# Altium footprint library PMP12082_TID.PcbLib: 28 footprints (part 1 of 2)
Each footprint in its own frame and in the unit in brackets; x right, y up, seen from the top. Pads: shape width x height; smd on the part's side, far side on the other; paste and mask are expansions set on the pad; w line width, h text height; cw(c..) or ccw(c..) is an arc to the next point about the centre after c.
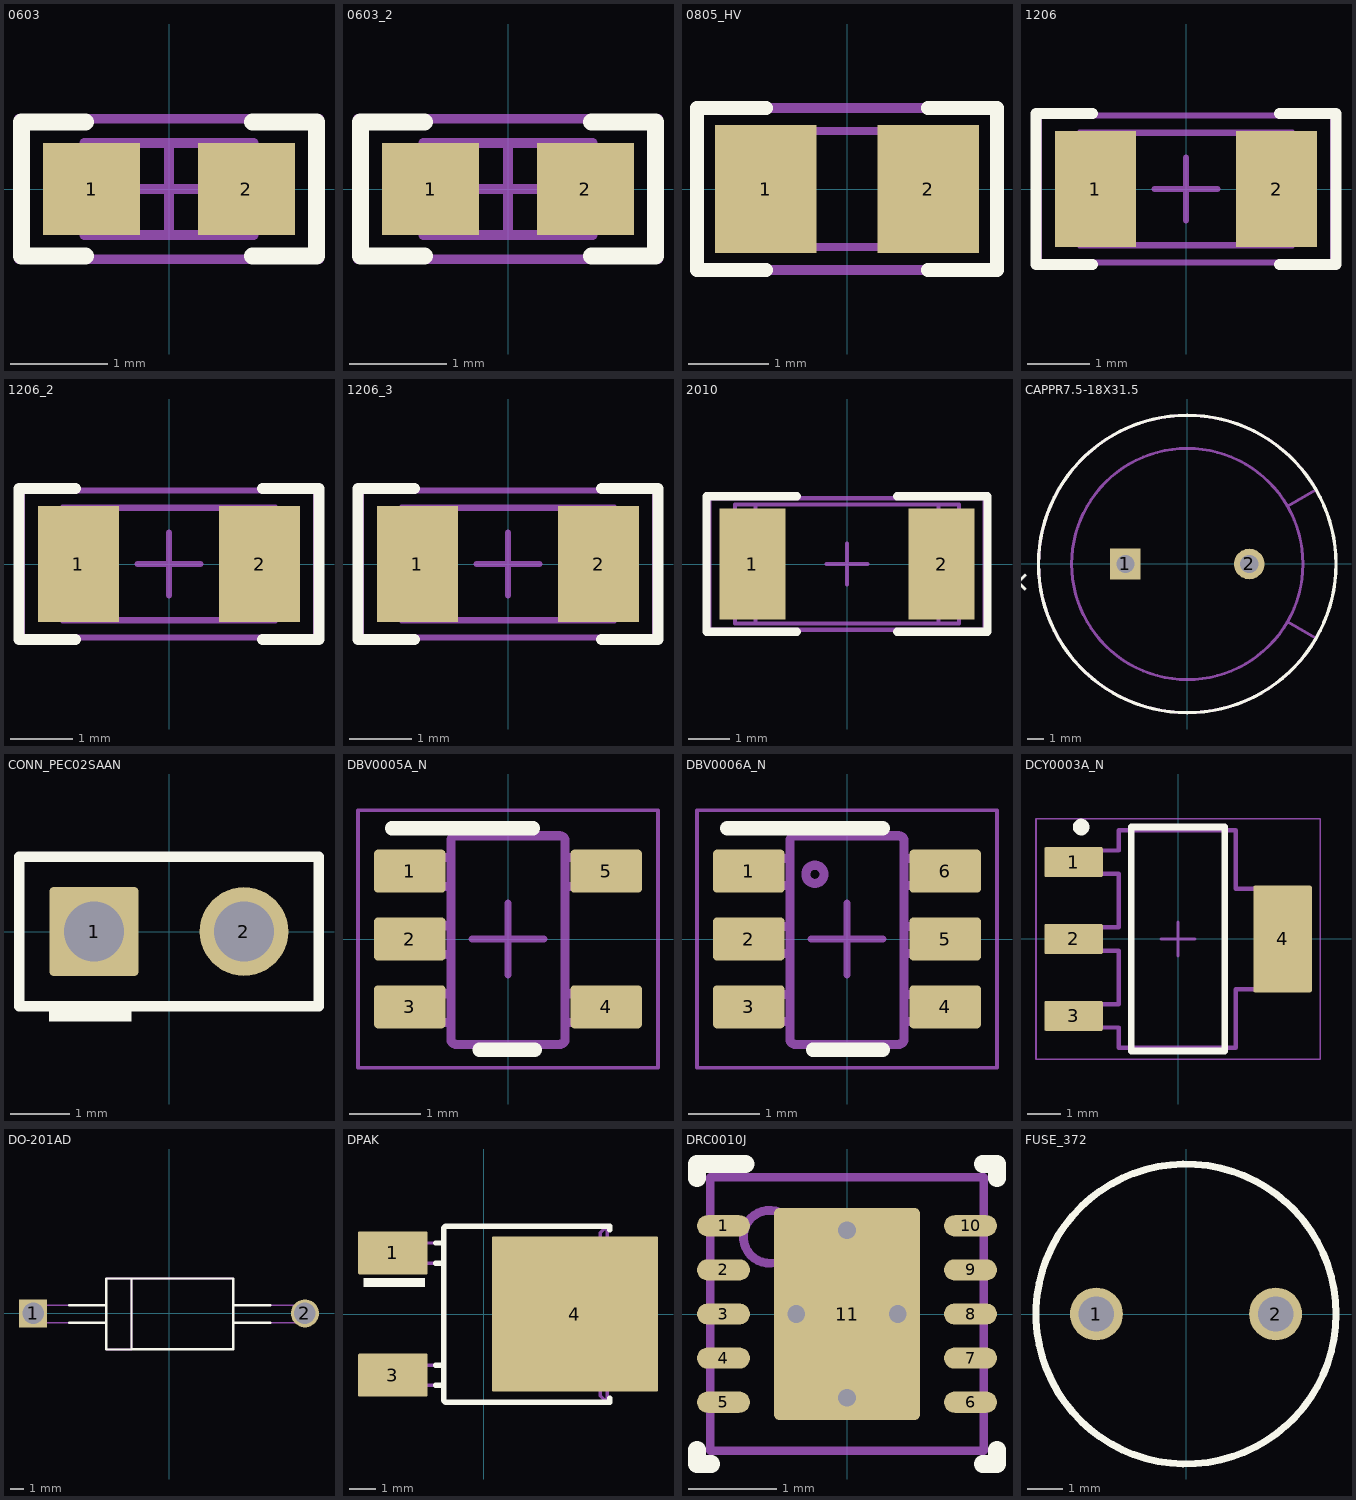
[diagram p0: the footprints below, top view; thin cyan lines are the x and y axes]

## 0603 [mm]
pads (2):
  rect 1x0.95 smd: 1(-0.8,0) 2(0.8,0)
Top Overlay:
  lines w0.178: -0.864,-0.691 -1.524,-0.691 -1.524,0.693 -0.864,0.693 ; 0.864,-0.691 1.524,-0.691 1.524,0.693 0.864,0.693
Mechanical 5:
  lines w0.1: -1.55,-0.725 1.55,-0.725 1.55,0.725 -1.55,0.725 -1.55,-0.725
  text ".Designator" at -1.397,-0.381 h0.76
Mechanical 13:
  lines w0.1: -0.55,-0.475 -0.55,0.475 ; 0.55,-0.475 0.55,0.475 ; -0.875,-0.475 -0.875,0.475 0.875,0.475 0.875,-0.475 -0.875,-0.475
Mechanical 15:
  lines w0.1: -0.475,0 0.475,0 ; 0,-0.475 0,0.475 ; -1.55,-0.725 -1.55,0.725 1.55,0.725 1.55,-0.725 -1.55,-0.725
3D body: height 1, standoff 0, extent 0.551,-0.474 0.874,0.474
3D body: height 1, standoff 0, extent -0.549,-0.474 0.549,0.474
3D body: height 1, standoff 0, extent -0.874,-0.474 -0.551,0.474

## 0603_2 [mm]
pads (2):
  rect 1x0.95 smd: 1(-0.8,0) 2(0.8,0)
Top Overlay:
  lines w0.178: -0.864,-0.691 -1.524,-0.691 -1.524,0.693 -0.864,0.693 ; 0.864,-0.691 1.524,-0.691 1.524,0.693 0.864,0.693
Mechanical 5:
  lines w0.1: -1.55,-0.725 -1.55,0.725 1.55,0.725 1.55,-0.725 -1.55,-0.725
  text ".Designator" at -1.397,-0.381 h0.76
Mechanical 13:
  lines w0.1: -0.55,-0.475 -0.55,0.475 ; 0.55,-0.475 0.55,0.475 ; -0.875,-0.475 0.875,-0.475 0.875,0.475 -0.875,0.475 -0.875,-0.475
Mechanical 15:
  lines w0.1: -0.475,0 0.475,0 ; 0,-0.475 0,0.475 ; -1.55,-0.725 1.55,-0.725 1.55,0.725 -1.55,0.725 -1.55,-0.725
3D body: height 1, standoff 0, extent -0.874,-0.474 -0.551,0.474
3D body: height 1, standoff 0, extent -0.549,-0.474 0.549,0.474
3D body: height 1, standoff 0, extent 0.551,-0.474 0.874,0.474

## 0805_HV [mil]
pads (2):
  rect 50x63 smd: 1(-40,0) 2(40,0)
Top Overlay:
  lines w7: -40,-40 -74,-40 -74,0 -74,40 -40,40 ; 40,-40 74,-40 74,0 74,40 40,40
Mechanical 5:
  lines w5: -74,-40 -74,40 74,40 74,-40 -74,-40
  text ".Designator" at -64,-17 h35
Mechanical 13:
  lines w3.94: -25.59,-28.54 -25.59,28.54 ; 25.59,-28.54 25.59,28.54 ; -43.31,-28.54 -43.31,28.54 43.31,28.54 43.31,-28.54 -43.31,-28.54
3D body: height 57.09, standoff 0, extent 25.61,-28.52 43.29,28.52
3D body: height 57.09, standoff 0, extent -25.57,-28.52 25.57,28.52
3D body: height 57.09, standoff 0, extent -43.29,-28.52 -25.61,28.52

## 1206 [mm]
pads (2):
  rect 1.3x1.85 smd: 1(-1.45,0) 2(1.45,0)
Top Overlay:
  lines w0.178: -1.5,-1.21 -2.4,-1.21 -2.4,1.21 -1.5,1.21 ; 1.5,-1.21 2.4,-1.21 2.4,1.21 1.5,1.21
Mechanical 5:
  lines w0.1: -1.7,-0.9 -1.7,0.9 1.7,0.9 1.7,-0.9 -1.7,-0.9
  text ".Designator" at -1.475,-0.4 h0.81
Mechanical 13:
  lines w0.1: -1.2,-0.9 -1.2,0.9 ; 1.2,-0.9 1.2,0.9 ; -1.7,-0.9 -1.7,0.9 1.7,0.9 1.7,-0.9 -1.7,-0.9
Mechanical 15:
  lines w0.1: -0.5,0 0.5,0 ; 0,-0.5 0,0.5 ; -2.35,-1.175 -2.35,1.175 2.35,1.175 2.35,-1.175 -2.35,-1.175
3D body: height 1.35, standoff 0, extent 1.201,-0.899 1.699,0.899
3D body: height 1.35, standoff 0, extent -1.199,-0.899 1.199,0.899
3D body: height 1.35, standoff 0, extent -1.699,-0.899 -1.201,0.899

## 1206_2 [mm]
pads (2):
  rect 1.3x1.85 smd: 1(-1.45,0) 2(1.45,0)
Top Overlay:
  lines w0.178: -1.5,-1.21 -2.4,-1.21 -2.4,1.21 -1.5,1.21 ; 1.5,-1.21 2.4,-1.21 2.4,1.21 1.5,1.21
Mechanical 5:
  lines w0.1: -1.7,-0.9 1.7,-0.9 1.7,0.9 -1.7,0.9 -1.7,-0.9
  text ".Designator" at -1.475,-0.4 h0.81
Mechanical 13:
  lines w0.1: -1.2,-0.9 -1.2,0.9 ; 1.2,-0.9 1.2,0.9 ; -1.7,-0.9 1.7,-0.9 1.7,0.9 -1.7,0.9 -1.7,-0.9
Mechanical 15:
  lines w0.1: -0.5,0 0.5,0 ; 0,-0.5 0,0.5 ; -2.35,-1.175 2.35,-1.175 2.35,1.175 -2.35,1.175 -2.35,-1.175
3D body: height 1.35, standoff 0, extent -1.699,-0.899 -1.201,0.899
3D body: height 1.35, standoff 0, extent -1.199,-0.899 1.199,0.899
3D body: height 1.35, standoff 0, extent 1.201,-0.899 1.699,0.899

## 1206_3 [mm]
pads (2):
  rect 1.3x1.85 smd: 1(-1.45,0) 2(1.45,0)
Top Overlay:
  lines w0.178: -1.5,-1.21 -2.4,-1.21 -2.4,1.21 -1.5,1.21 ; 1.5,-1.21 2.4,-1.21 2.4,1.21 1.5,1.21
Mechanical 5:
  lines w0.1: -1.7,-0.9 -1.7,0.9 1.7,0.9 1.7,-0.9 -1.7,-0.9
  text ".Designator" at -1.475,-0.4 h0.81
Mechanical 13:
  lines w0.1: -1.2,-0.9 -1.2,0.9 ; 1.2,-0.9 1.2,0.9 ; -1.7,-0.9 -1.7,0.9 1.7,0.9 1.7,-0.9 -1.7,-0.9
Mechanical 15:
  lines w0.1: -0.5,0 0.5,0 ; 0,-0.5 0,0.5 ; -2.35,-1.175 -2.35,1.175 2.35,1.175 2.35,-1.175 -2.35,-1.175
3D body: height 1.35, standoff 0, extent 1.201,-0.899 1.699,0.899
3D body: height 1.35, standoff 0, extent -1.199,-0.899 1.199,0.899
3D body: height 1.35, standoff 0, extent -1.699,-0.899 -1.201,0.899

## 2010 [mm]
pads (2):
  rect 1.6x2.7 smd: 1(-2.3,0) 2(2.3,0)
Top Overlay:
  lines w0.2: -1.219,-1.65 -3.419,-1.65 -3.419,1.65 -1.219,1.65 ; 1.219,-1.65 3.419,-1.65 3.419,1.65 1.219,1.65
Mechanical 5:
  lines w0.1: -2.73,-1.45 -2.73,1.45 2.73,1.45 2.73,-1.45 -2.73,-1.45
  text ".Designator" at -1.875,-0.5 h1.02
Mechanical 13:
  lines w0.1: -2.23,-1.45 -2.23,1.45 ; 2.23,-1.45 2.23,1.45 ; -2.73,-1.45 2.73,-1.45 2.73,1.45 -2.73,1.45 -2.73,-1.45
Mechanical 15:
  lines w0.1: -0.5,0 0.5,0 ; 0,-0.5 0,0.5 ; -3.35,-1.6 3.35,-1.6 3.35,1.6 -3.35,1.6 -3.35,-1.6
3D body: height 1.66, standoff 0, extent -2.729,-1.449 -2.231,1.449
3D body: height 1.66, standoff 0, extent -2.229,-1.449 2.229,1.449
3D body: height 1.66, standoff 0, extent 2.231,-1.449 2.729,1.449

## CAPPR7.5-18X31.5 [mm]
pads (2):
  rect 1.85x1.85 hole 1.1: 1(-3.75,0)
  round 1.85 hole 1.1: 2(3.75,0)
Top Overlay:
  circle w0.2: c-0.004,-0.001 r9
  text "+" at -9.16,-1.257 h1.5
Mechanical 5:
  circle w0.127: c-0.004,-0.001 r9
  text ".Designator" at -1.524,-0.508 h1.02
  text "+" at -10.475,-0.75 h1.5
Mechanical 13:
  circle w0.178: c0,0 r7
  circle w0.178: c3.75,0 r0.4
  circle w0.178: c-3.75,0 r0.4
  lines w0.178: 6.062,-3.5 cw(c0,0) 6.062,3.5 7.794,4.5 ccw(c0,0) 7.794,-4.5 6.062,-3.5
3D body: height 33.5, standoff 0, extent 6.061,-4.501 9.001,4.501
3D body: height 33.5, standoff 0, extent -8.999,-9.01 7.794,9.01
3D body: height 33.5, standoff 0, extent -6.999,-7.007 6.999,7.007
3D body: height 1, standoff -2.54, extent -4.149,-0.399 -3.351,0.399
3D body: height 1, standoff -2.54, extent 3.351,-0.399 4.149,0.399

## CONN_PEC02SAAN [mm]
pads (2):
  rrect7% 1.5x1.5 hole 1.016: 1(-1.27,0)
  round 1.5 hole 1.016: 2(1.27,0)
Top Overlay:
  rectangle: -2.032,-1.524 -0.635,-1.27
  lines w0.178: -2.54,-1.27 2.54,-1.27 2.54,1.27 -2.54,1.27 -2.54,-1.27
Mechanical 5:
  lines w0.127: -2.54,-1.27 -2.54,1.27 2.54,1.27 2.54,-1.27 -2.54,-1.27
  text ".Designator" at -1.778,-0.381 h0.76
3D body: height 8.38, standoff -3.05, extent 0.966,-0.304 1.574,0.304
3D body: height 8.38, standoff -3.05, extent -1.574,-0.304 -0.966,0.304
3D body: height 2.54, standoff 0, extent -2.539,-1.269 2.539,1.269

## DBV0005A_N [mm]
pads (5):
  rrect17% 1x0.6 smd: 1(-1.375,0.95) 2(-1.375,0) 3(-1.375,-0.95) 4(1.375,-0.95) 5(1.375,0.95)
Top Overlay:
  lines w0.2: -1.625,1.55 0.35,1.55 ; -0.4,-1.55 0.375,-1.55
Mechanical 5:
  lines w0.127: -0.801,1.371 cw(c-0.725,1.37) -0.725,1.446 ; -0.801,1.37 -0.801,1.371 ; -0.801,1.37 -0.801,-1.399 -0.801,-1.4 ccw(c-0.725,-1.399) -0.725,-1.475 ; -0.725,-1.475 0.723,-1.475 0.724,-1.475 ccw(c0.723,-1.399) 0.799,-1.4 0.799,-1.399 0.799,1.37 ; -0.725,-1.475 -0.725,-1.475 ; -0.725,1.446 -0.725,1.446 ; -0.725,1.446 0.723,1.446 0.724,1.446 cw(c0.723,1.37) 0.799,1.371 ; 0.799,1.37 0.799,1.371 ; -1.423,-1.167 -1.423,-0.767 -1.199,-0.767 -1.105,-0.767 -1.088,-0.767 -0.835,-0.767 -0.801,-0.767 -0.801,-1.167 -0.835,-1.167 -1.088,-1.167 -1.105,-1.167 -1.199,-1.167 -1.423,-1.167 ; -1.423,-0.215 -1.423,0.186 -1.199,0.186 -1.105,0.186 -1.088,0.186 -0.835,0.186 -0.801,0.186 -0.801,-0.215 -0.835,-0.215 -1.088,-0.215 -1.105,-0.215 -1.199,-0.215 -1.423,-0.215 ; -1.423,0.738 -1.423,1.138 -1.199,1.138 -1.105,1.138 -1.088,1.138 -0.835,1.138 -0.801,1.138 -0.801,0.738 -0.835,0.738 -1.088,0.738 -1.105,0.738 -1.199,0.738 -1.423,0.738 ; 0.799,-1.167 0.834,-1.167 1.087,-1.167 1.103,-1.167 1.198,-1.167 1.422,-1.167 1.422,-0.767 1.198,-0.767 1.103,-0.767 1.087,-0.767 0.834,-0.767 0.799,-0.767 0.799,-1.167 ; 0.799,0.738 0.834,0.738 1.087,0.738 1.103,0.738 1.198,0.738 1.422,0.738 1.422,1.138 1.198,1.138 1.103,1.138 1.087,1.138 0.834,1.138 0.799,1.138 0.799,0.738
  text ".Designator" at -0.25,0.95 h0.51
Mechanical 15:
  lines w0.05: -2.1,-1.8 -2.1,1.8 2.1,1.8 2.1,-1.8 -2.1,-1.8
  lines w0.1: -0.5,0 0.5,0 ; 0,-0.5 0,0.5
3D body "DBV0005A.stp": height 1.09, standoff 0, extent -1.422,-1.461 1.423,1.46

## DBV0006A_N [mm]
pads (6):
  rrect17% 1x0.6 smd: 1(-1.375,0.95) 2(-1.375,0) 3(-1.375,-0.95) 4(1.375,-0.95) 5(1.375,0) 6(1.375,0.95)
Top Overlay:
  lines w0.2: -1.675,1.55 0.5,1.55 ; -0.475,-1.55 0.5,-1.55
Mechanical 5:
  lines w0.127: 0.724,-1.475 ccw(c0.723,-1.399) 0.8,-1.399 0.8,1.37 ccw(c0.723,1.37) 0.724,1.446 ; 0.723,-1.475 0.724,-1.475 ; 0.723,-1.475 -0.724,-1.475 -0.725,-1.475 cw(c-0.724,-1.399) -0.801,-1.399 -0.801,1.37 cw(c-0.724,1.37) -0.725,1.446 -0.724,1.446 0.723,1.446 ; 0.723,1.446 0.724,1.446 ; -1.423,-1.154 -1.206,-1.154 -1.113,-1.154 -1.081,-1.154 -0.828,-1.154 -0.801,-1.154 -0.801,-0.78 -0.828,-0.78 -1.081,-0.78 -1.113,-0.78 -1.206,-0.78 -1.423,-0.78 -1.423,-1.154 ; -1.423,-0.202 -1.206,-0.202 -1.113,-0.202 -1.081,-0.202 -0.828,-0.202 -0.801,-0.202 -0.801,0.173 -0.828,0.173 -1.081,0.173 -1.113,0.173 -1.206,0.173 -1.423,0.173 -1.423,-0.202 ; -1.423,0.751 -1.206,0.751 -1.113,0.751 -1.081,0.751 -0.828,0.751 -0.801,0.751 -0.801,1.125 -0.828,1.125 -1.081,1.125 -1.113,1.125 -1.206,1.125 -1.423,1.125 -1.423,0.751 ; -0.577,0.906 cw(c-0.45,0.906) -0.323,0.906 cw(c-0.45,0.906) -0.577,0.906 ; 0.8,-1.154 0.827,-1.154 1.08,-1.154 1.112,-1.154 1.205,-1.154 1.422,-1.154 1.422,-0.78 1.205,-0.78 1.112,-0.78 1.08,-0.78 0.827,-0.78 0.8,-0.78 0.8,-1.154 ; 0.8,-0.202 0.827,-0.202 1.08,-0.202 1.112,-0.202 1.205,-0.202 1.422,-0.202 1.422,0.173 1.205,0.173 1.112,0.173 1.08,0.173 0.827,0.173 0.8,0.173 0.8,-0.202 ; 0.8,0.751 0.827,0.751 1.08,0.751 1.112,0.751 1.205,0.751 1.422,0.751 1.422,1.125 1.205,1.125 1.112,1.125 1.08,1.125 0.827,1.125 0.8,1.125 0.8,0.751
  text ".Designator" at -0.075,0.925 h0.51
Mechanical 15:
  lines w0.05: -2.1,-1.8 2.1,-1.8 2.1,1.8 -2.1,1.8 -2.1,-1.8
  lines w0.1: -0.5,0 0.5,0 ; 0,-0.5 0,0.5
3D body "DBV0006A.stp": height 1.12, standoff 0, extent -1.422,-1.46 1.423,1.461

## DCY0003A_N [mm]
pads (4):
  rrect11% 1.75x0.9 smd: 1(-3.125,2.3) 2(-3.125,0) 3(-3.125,-2.3)
  rrect6% 1.75x3.2 smd: 4(3.125,0)
Top Overlay:
  circle w0.25: c-2.9,3.35 r0.125
  lines w0.2: -1.4,-3.35 1.4,-3.35 1.4,3.35 -1.4,3.35 -1.4,-3.35
Mechanical 5:
  lines w0.127: -3.525,-2.65 -2.797,-2.65 -2.612,-2.65 -2.374,-2.65 -2.003,-2.65 -1.775,-2.65 -1.775,-3.25 1.725,-3.25 1.725,-1.5 1.953,-1.5 2.324,-1.5 2.562,-1.5 2.747,-1.5 3.475,-1.5 3.475,1.5 2.747,1.5 2.562,1.5 2.324,1.5 1.953,1.5 1.725,1.5 1.725,3.25 -1.775,3.25 -1.775,2.65 -2.003,2.65 -2.374,2.65 -2.612,2.65 -2.797,2.65 -3.525,2.65 -3.525,1.95 -2.797,1.95 -2.612,1.95 -2.374,1.95 -2.003,1.95 -1.775,1.95 -1.775,0.35 -2.003,0.35 -2.374,0.35 -2.612,0.35 -2.797,0.35 -3.525,0.35 -3.525,-0.35 -2.797,-0.35 -2.612,-0.35 -2.374,-0.35 -2.003,-0.35 -1.775,-0.35 -1.775,-1.95 -2.003,-1.95 -2.374,-1.95 -2.612,-1.95 -2.797,-1.95 -3.525,-1.95 -3.525,-2.65
  text ".Designator" at -0.425,2.5 h1.02
Mechanical 15:
  lines w0.05: -4.25,-3.6 -4.25,3.6 4.25,3.6 4.25,-3.6 -4.25,-3.6
  lines w0.1: -0.5,0 0.5,0 ; 0,-0.5 0,0.5
3D body "DCY0003A.stp": height 1.8, standoff 0, extent -3.513,-3.25 3.513,3.25

## DO-201AD [mm]
pads (2):
  rect 2.1x2.1 hole 1.6: 1(-10.16,0)
  round 2.1 hole 1.6: 2(10.16,0)
Top Overlay:
  lines w0.178: -7.47,-0.7 -4.7,-0.7 ; -7.47,0.62 -4.7,0.62 ; -2.8,-2.69 4.8,-2.69 4.8,2.61 -2.8,2.61 ; 4.8,-0.7 7.57,-0.7 ; 4.8,0.62 7.57,0.62 ; -2.8,2.61 -2.8,-2.7 -4.7,-2.7 -4.7,2.61 -2.8,2.61
Mechanical 5:
  lines w0.127: -4.7,-0.7 -7.47,-0.7 -10.11,-0.7 cw(c-10.11,-0.04) -10.11,0.62 -7.47,0.62 -4.7,0.62 ; -2.8,-2.69 4.8,-2.69 4.8,2.61 -2.8,2.61 ; 4.8,-0.7 7.57,-0.7 10.21,-0.7 ccw(c10.21,-0.04) 10.21,0.62 7.57,0.62 4.8,0.62 ; -2.8,2.61 -4.7,2.61 -4.7,-2.7 -2.8,-2.7 -2.8,2.61
  text ".Designator" at -0.8,-0.2 h0.51
3D body "DO-201AD.stp": height 5.33, standoff -2.54, extent -10.819,-2.741 10.819,2.609

## DPAK [mm]
pads (3):
  rrect6% 2.6x1.6 smd: 1(-3.4,2.28) 3(-3.4,-2.28)
  rrect2% 6.2x5.8 smd paste-2.9: 4(3.4,0)
Top Overlay:
  rectangle: -4.5,1 -2.2,1.35
  lines w0.2: -1.8,1.9 -1.5,1.9 ; -1.8,2.65 -1.5,2.65 ; 4.7,-3.3 -1.429,-3.3 -1.5,-3.229 -1.5,-3.157 -1.5,-2.665 ; 4.7,-3.28 4.7,-3.15 ; 4.7,3.15 4.7,3.28 -1.429,3.28 -1.5,3.209 -1.5,3.137 -1.5,-1.915 ; -1.8,-2.665 -1.5,-2.665 ; -1.8,-2.665 -1.5,-2.665 ; -1.8,-2.665 -1.5,-2.665 ; -1.8,-1.915 -1.5,-1.915 ; -1.8,-1.915 -1.5,-1.915 ; -1.8,-1.915 -1.5,-1.915 ; -1.5,-2.665 -1.5,-1.915 ; -1.5,-2.665 -1.5,-1.915 ; -1.5,-2.665 -1.5,-1.915
Top Paste:
  rectangle: 0.4,-2.8 1.675,-1.625
  rectangle: 1.975,-2.8 3.25,-1.625
  rectangle: 3.55,-2.8 4.825,-1.625
  rectangle: 5.125,-2.8 6.4,-1.625
  rectangle: 5.125,-1.325 6.4,-0.15
  rectangle: 3.55,-1.325 4.825,-0.15
  rectangle: 1.975,-1.325 3.25,-0.15
  rectangle: 0.4,-1.325 1.675,-0.15
  rectangle: 5.125,0.15 6.4,1.325
  rectangle: 3.55,0.15 4.825,1.325
  rectangle: 1.975,0.15 3.25,1.325
  rectangle: 0.4,0.15 1.675,1.325
  rectangle: 5.125,1.625 6.4,2.8
  rectangle: 3.55,1.625 4.825,2.8
  rectangle: 1.975,1.625 3.25,2.8
  rectangle: 0.4,1.625 1.675,2.8
Mechanical 5:
  lines w0.127: -1.5,1.9 -2.757,1.9 -3.157,1.9 ; -1.5,2.65 -2.757,2.65 -3.157,2.65 ; -3.899,-2.665 -3.899,-1.915 ; -3.899,-2.665 -3.357,-2.665 ; -3.899,-2.665 -3.899,-1.915 ; -3.899,-2.665 -3.357,-2.665 ; -3.899,-2.665 -3.899,-1.915 ; -3.899,-2.665 -3.357,-2.665 ; -3.899,-1.915 -3.357,-1.915 ; -3.899,-1.915 -3.357,-1.915 ; -3.899,-1.915 -3.357,-1.915 ; -3.357,-2.665 -3.157,-2.665 ; -3.357,-2.665 -3.157,-2.665 ; -3.357,-2.665 -3.157,-2.665 ; -3.357,-1.915 -3.157,-1.915 ; -3.357,-1.915 -3.157,-1.915 ; -3.357,-1.915 -3.157,-1.915 ; -3.157,-2.665 -2.757,-2.665 ; -3.157,-2.665 -3.157,-1.915 ; -3.157,-2.665 -2.757,-2.665 ; -3.157,-2.665 -3.157,-1.915 ; -3.157,-2.665 -2.757,-2.665 ; -3.157,-2.665 -3.157,-1.915 ; -3.157,-1.915 -2.757,-1.915 ; -3.157,-1.915 -2.757,-1.915 ; -3.157,-1.915 -2.757,-1.915 ; -3.157,1.9 -3.157,2.65 ; -3.157,1.9 -3.357,1.9 -3.899,1.9 -3.899,2.65 -3.357,2.65 -3.157,2.65 ; -2.757,-2.665 -1.5,-2.665 ; -2.757,-2.665 -1.5,-2.665 ; -2.757,-2.665 -1.5,-2.665 ; -2.757,-1.915 -1.5,-1.915 ; -2.757,-1.915 -1.5,-1.915 ; -2.757,-1.915 -1.5,-1.915 ; -1.5,-2.665 -1.5,-3.157 -1.5,-3.229 -1.429,-3.3 4.6,-3.3 ; -1.5,-2.665 -1.5,-1.915 ; -1.5,-2.665 -1.5,-1.915 ; -1.5,-2.665 -1.5,-1.915 ; -1.5,-1.915 -1.5,3.137 -1.5,3.209 -1.429,3.28 4.6,3.28 ; 4.6,-3.3 4.348,-3.048 4.348,3.028 4.6,3.28 ; 4.6,-3.3 4.6,-2.69 5.8,-2.69 5.8,-2.01 5.308,-2.01 5.308,1.99 5.8,1.99 5.8,2.67 4.6,2.67 4.6,3.28
  text ".Designator" at -0.374,-0.508 h1.02
3D body "td03b.stp": height 2.48, standoff 0.01, extent -3.856,-3.29 5.843,3.29

## DRC0010J [mm]
pads (11):
  rrect100% 0.6x0.24 smd: 1(-1.4,1) 2(-1.4,0.5) 3(-1.4,0) 4(-1.4,-0.5) 5(-1.4,-1) 6(1.4,-1) 7(1.4,-0.5) 8(1.4,0) 9(1.4,0.5) 10(1.4,1)
  rrect6% 1.65x2.4 smd paste-0.825: 11(0,0)
via 0,-0.95 diameter 0.5 hole 0.2
via 0,0.95 diameter 0.5 hole 0.2
via 0.575,0 diameter 0.5 hole 0.2
via -0.575,0 diameter 0.5 hole 0.2
Top Overlay:
  lines w0.2: -1.7,-1.54 -1.7,-1.7 -1.54,-1.7 ; -1.7,1.54 -1.7,1.7 -1.15,1.7 ; 1.54,-1.7 1.7,-1.7 1.7,-1.54 ; 1.54,1.7 1.7,1.7 1.7,1.54
Top Paste:
  rectangle: -0.75,-1.16 0.75,-0.1
  rectangle: -0.75,0.1 0.75,1.16
Mechanical 5:
  circle w0.1: c-0.875,0.875 r0.3
  lines w0.1: -1.55,-1.55 -1.55,1.55 1.55,1.55 1.55,-1.55 -1.55,-1.55
  text ".Designator" at -1.397,-1.016 h0.76
3D body: height 1.01, standoff 0.8, extent -1.174,0.576 -0.576,1.174
3D body: height 1, standoff 0, extent -1.55,-1.55 1.55,1.55

## FUSE_372 [mm]
pads (2):
  round 1.5 hole 1: 1(-2.54,0) 2(2.54,0)
Top Overlay:
  circle w0.2: c0,0 r4.25
Mechanical 5:
  circle w0.1: c0,0 r4.25
  text ".Designator" at -1.524,-0.508 h1.02
3D body: height 8, standoff 0, extent -4.249,-4.249 4.249,4.249
3D body: height 4, standoff -2, extent 2.242,-0.299 2.84,0.299
3D body: height 4, standoff -2, extent -2.837,-0.299 -2.24,0.3